# EAGLE library part DUPONT-FEMALE-HORIZONTAL-8PIN (library hqc-connector)
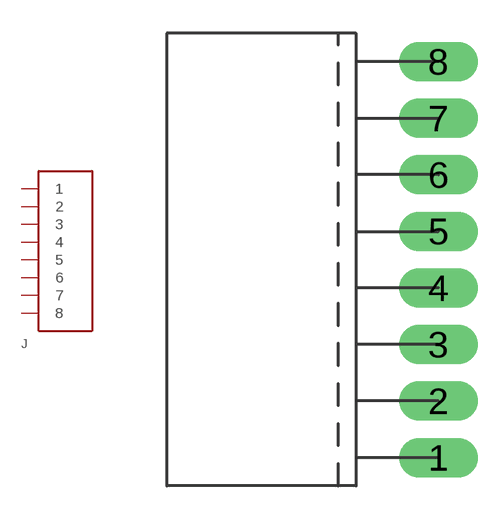
[diagram p0: symbol with the pads of DUPONT-FEMALE-HORIZONTAL-8PIN; footprint DUPONT-FEMALE-HORIZONTAL-8PIN]

Designator prefix J

## DUPONT-FEMALE-HORIZONTAL-8PIN  [DUPONT-FEMALE-HORIZONTAL-8PIN]
1  1
2  2
3  3
4  4
5  5
6  6
7  7
8  8

## Footprint DUPONT-FEMALE-HORIZONTAL-8PIN (pad centres in mm)
drill 1 pad 1.778 long: 1 4.5,-7.62; 2 4.5,-5.08; 3 4.5,-2.54; 4 4.5,0; 5 4.5,2.54; 6 4.5,5.08; 7 4.5,7.62; 8 4.5,10.16